# EAGLE library part TSW-S-47 (library con-samtec-tsw)
HEADER
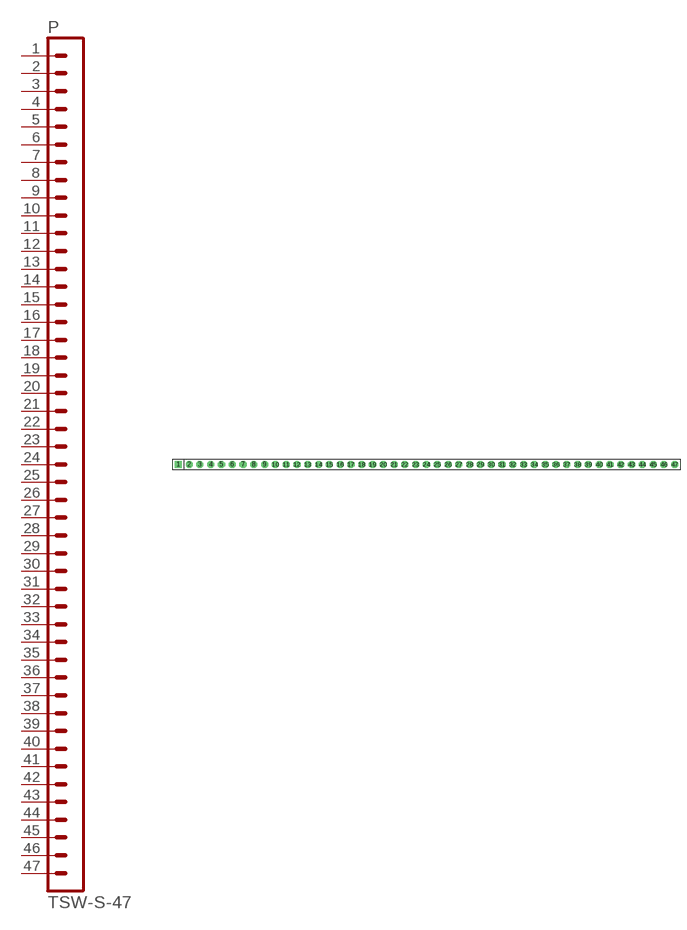
[diagram p41: symbol with the pads of TSW-S-47; footprint TSW-S-47]

Designator prefix P

## TSW-S-47  [TSW-S-47]
1  1  pas
2  2  pas
3  3  pas
4  4  pas
5  5  pas
6  6  pas
7  7  pas
8  8  pas
9  9  pas
10  10  pas
11  11  pas
12  12  pas
13  13  pas
14  14  pas
15  15  pas
16  16  pas
17  17  pas
18  18  pas
19  19  pas
20  20  pas
21  21  pas
22  22  pas
23  23  pas
24  24  pas
25  25  pas
26  26  pas
27  27  pas
28  28  pas
29  29  pas
30  30  pas
31  31  pas
32  32  pas
33  33  pas
34  34  pas
35  35  pas
36  36  pas
37  37  pas
38  38  pas
39  39  pas
40  40  pas
41  41  pas
42  42  pas
43  43  pas
44  44  pas
45  45  pas
46  46  pas
47  47  pas

## Footprint TSW-S-47 (pad centres in mm)
HEADER
drill 0.914 pad 1.676 square: 1 -58.42,0
drill 0.914 pad 1.676 octagon: 2 -55.88,0; 3 -53.34,0; 4 -50.8,0; 5 -48.26,0; 6 -45.72,0; 7 -43.18,0; 8 -40.64,0; 9 -38.1,0; 10 -35.56,0; 11 -33.02,0; 12 -30.48,0; 13 -27.94,0; 14 -25.4,0; 15 -22.86,0; 16 -20.32,0; 17 -17.78,0; 18 -15.24,0; 19 -12.7,0; 20 -10.16,0; 21 -7.62,0; 22 -5.08,0; 23 -2.54,0; 24 0,0; 25 2.54,0; 26 5.08,0; 27 7.62,0; 28 10.16,0; 29 12.7,0; 30 15.24,0; 31 17.78,0; 32 20.32,0; 33 22.86,0; 34 25.4,0; 35 27.94,0; 36 30.48,0; 37 33.02,0; 38 35.56,0; 39 38.1,0; 40 40.64,0; 41 43.18,0; 42 45.72,0; 43 48.26,0; 44 50.8,0; 45 53.34,0; 46 55.88,0; 47 58.42,0